# EAGLE library part TPA3255 (library BW-Active)
Class D audio amplifier up to 600W into PBTL Mono
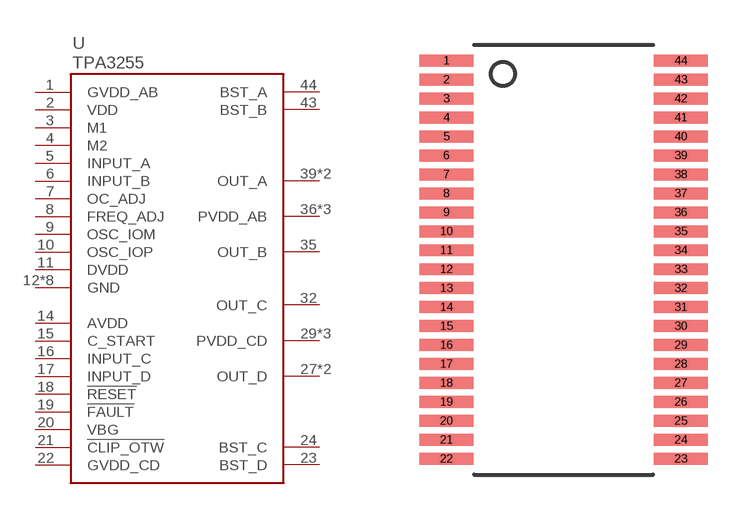
[diagram p0: symbol with the pads of TSSOP44; footprint TSSOP44]

Designator prefix U

## TPA3255  [TSSOP44]
1  GVDD_AB
2  VDD
3  M1
4  M2
5  INPUT_A
6  INPUT_B
7  OC_ADJ
8  FREQ_ADJ
9  OSC_IOM
10  OSC_IOP
11  DVDD
12  GND
13  GND
14  AVDD
15  C_START
16  INPUT_C
17  INPUT_D
18  !RESET
19  !FAULT
20  VBG
21  !CLIP_OTW
22  GVDD_CD
23  BST_D
24  BST_C
25  GND
26  GND
27  OUT_D
28  OUT_D
29  PVDD_CD
30  PVDD_CD
31  PVDD_CD
32  OUT_C
33  GND
34  GND
35  OUT_B
36  PVDD_AB
37  PVDD_AB
38  PVDD_AB
39  OUT_A
40  OUT_A
41  GND
42  GND
43  BST_B
44  BST_A

## Footprint TSSOP44 (pad centres in mm)
smd 1.8 x 0.4: 1 -3.925,6.668; 2 -3.925,6.032; 3 -3.925,5.397; 4 -3.925,4.763; 5 -3.925,4.128; 6 -3.925,3.493; 7 -3.925,2.857; 8 -3.925,2.223; 9 -3.925,1.587; 10 -3.925,0.953; 11 -3.925,0.318; 12 -3.925,-0.318; 13 -3.925,-0.953; 14 -3.925,-1.587; 15 -3.925,-2.223; 16 -3.925,-2.857; 17 -3.925,-3.493; 18 -3.925,-4.128; 19 -3.925,-4.763; 20 -3.925,-5.397; 21 -3.925,-6.032; 22 -3.925,-6.668; 23 3.925,-6.668; 24 3.925,-6.032; 25 3.925,-5.397; 26 3.925,-4.763; 27 3.925,-4.128; 28 3.925,-3.493; 29 3.925,-2.857; 30 3.925,-2.223; 31 3.925,-1.587; 32 3.925,-0.953; 33 3.925,-0.318; 34 3.925,0.318; 35 3.925,0.953; 36 3.925,1.587; 37 3.925,2.223; 38 3.925,2.857; 39 3.925,3.493; 40 3.925,4.128; 41 3.925,4.763; 42 3.925,5.397; 43 3.925,6.032; 44 3.925,6.668